# EAGLE library part 50499-005 (library con-aces-50499-series)
ACES CONNECTORS 50499 SERIES ACES Connecors 50499 <https://www.acesconn.com/series/50499-xxxxx-xxx/1229>
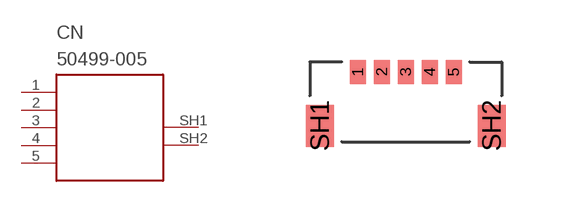
[diagram p1: symbol with the pads of 50499-005; footprint 50499-005]

Designator prefix CN

## 50499-005  [50499-005]
1  1
2  2
3  3
4  4
5  5
SH1  SH1
SH2  SH2

## Footprint 50499-005 (pad centres in mm)
smd 0.4 x 0.6: 1 -1.2,0; 2 -0.6,0; 3 0,0; 4 0.6,0; 5 1.2,0
smd 0.7 x 1.05: SH1 -2.15,-1.35; SH2 2.15,-1.35